# Altium footprint library QFP.PcbLib: 2 footprints
Each footprint in its own frame and in the unit in brackets; x right, y up, seen from the top. Pads: shape width x height; smd on the part's side, far side on the other; paste and mask are expansions set on the pad; w line width, h text height; cw(c..) or ccw(c..) is an arc to the next point about the centre after c.
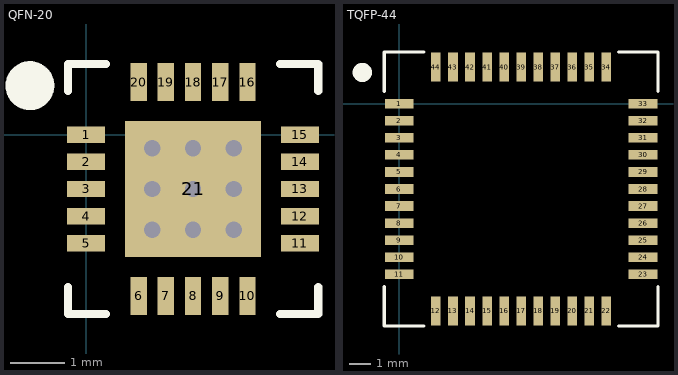
[diagram p0: the footprints below, top view; thin cyan lines are the x and y axes]

## QFN-20 [mm]
pads (21):
  rect 0.7x0.3 smd mask+0.05: 1(0,0) 2(0,-0.5) 3(0,-1) 4(0,-1.5) 5(0,-2) 11(3.93,-2) 12(3.93,-1.5) 13(3.93,-1) 14(3.93,-0.5) 15(3.93,0)
  rect 0.3x0.7 smd mask+0.05: 6(0.965,-2.965) 7(1.465,-2.965) 8(1.965,-2.965) 9(2.465,-2.965) 10(2.965,-2.965) 16(2.965,0.965) 17(2.465,0.965) 18(1.965,0.965) 19(1.465,0.965) 20(0.965,0.965)
  rect 2.5x2.5 smd: 21(1.965,-1)
via 1.215,-0.25 diameter 0.7 hole 0.3
via 1.965,-0.25 diameter 0.7 hole 0.3
via 2.715,-0.25 diameter 0.7 hole 0.3
via 2.715,-1 diameter 0.7 hole 0.3
via 1.215,-1 diameter 0.7 hole 0.3
via 1.215,-1.75 diameter 0.7 hole 0.3
via 1.965,-1.75 diameter 0.7 hole 0.3
via 2.715,-1.75 diameter 0.7 hole 0.3
via 1.965,-1 diameter 0.7 hole 0.3
Top Overlay:
  circle w0.5: c-1.035,0.9 r0.2
  lines w0.15: -0.335,-2.8 -0.335,-3.3 0.365,-3.3 ; -0.335,0.8 -0.335,1.3 0.365,1.3 ; 3.565,-3.3 4.265,-3.3 4.265,-2.8 ; 3.565,1.3 4.265,1.3 4.265,0.8
3D body "QFN-20 (4x4x0.9).step": height 0.92, standoff 0, extent -0.035,-3.011 3.965,0.989

## TQFP-44 [mm]
pads (44):
  rect 1.35x0.45 smd mask+0.05: 1(0,0) 2(0,-0.8) 3(0,-1.6) 4(0,-2.4) 5(0,-3.2) 6(0,-4) 7(0,-4.8) 8(0,-5.6) 9(0,-6.4) 10(0,-7.2) 11(0,-8) 23(11.45,-8) 24(11.45,-7.2) 25(11.45,-6.4) 26(11.45,-5.6) 27(11.45,-4.8) 28(11.45,-4) 29(11.45,-3.2) 30(11.45,-2.4) 31(11.45,-1.6) 32(11.45,-0.8) 33(11.45,0)
  rect 0.45x1.35 smd mask+0.05: 12(1.725,-9.725) 13(2.525,-9.725) 14(3.325,-9.725) 15(4.125,-9.725) 16(4.925,-9.725) 17(5.725,-9.725) 18(6.525,-9.725) 19(7.325,-9.725) 20(8.125,-9.725) 21(8.925,-9.725) 22(9.725,-9.725) 34(9.725,1.725) 35(8.925,1.725) 36(8.125,1.725) 37(7.325,1.725) 38(6.525,1.725) 39(5.725,1.725) 40(4.925,1.725) 41(4.125,1.725) 42(3.325,1.725) 43(2.525,1.725) 44(1.725,1.725)
Top Overlay:
  circle w0.5: c-1.735,1.475 r0.2
  lines w0.15: -0.7,-8.575 -0.7,-10.425 1.15,-10.425 ; -0.7,0.575 -0.7,2.425 1.15,2.425 ; 10.3,-10.425 12.15,-10.425 12.15,-8.575 ; 10.3,2.425 12.15,2.425 12.15,0.575
3D body "tqfp-44.stp": height 1.61, standoff 0.01, extent -0.287,-10.012 11.737,2.012